# EAGLE library part TRINKET_TH (library BOBs)
Gadgetron Through Hole Trinket
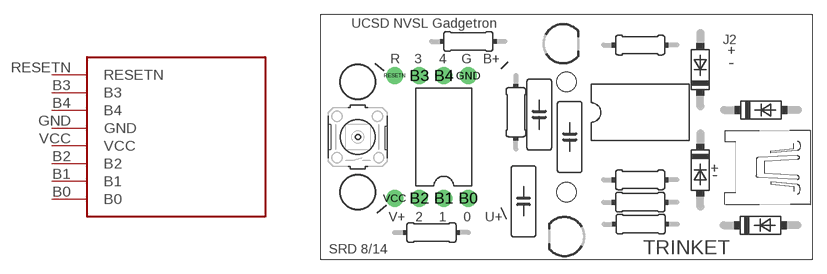
[diagram p14: symbol with the pads of TRINKET_TH; footprint TRINKET_TH]

Designator prefix -

## TRINKET_TH-BOB (DIST: Gadgetron; DISTPN: trinket)  [TRINKET_TH]
B0  B0
B1  B1
B2  B2
B3  B3
B4  B4
GND  GND
RESETN  RESETN
VCC  VCC

## Footprint TRINKET_TH (pad centres in mm)
drill 1.016 pad 1.778: B0 15.24,6.35; B1 12.7,6.35; B2 10.16,6.35; B3 10.16,19.05; B4 12.7,19.05; GND 15.24,19.05; RESETN 7.62,19.05; VCC 7.62,6.35
hole 2 at 25.4,18.415
hole 2 at 25.4,6.985